# Altium footprint library KILEX LIBRARY PCB.PcbLib: 35 footprints (part 3 of 3)
Each footprint in its own frame and in the unit in brackets; x right, y up, seen from the top. Pads: shape width x height; smd on the part's side, far side on the other; paste and mask are expansions set on the pad; w line width, h text height; cw(c..) or ccw(c..) is an arc to the next point about the centre after c.
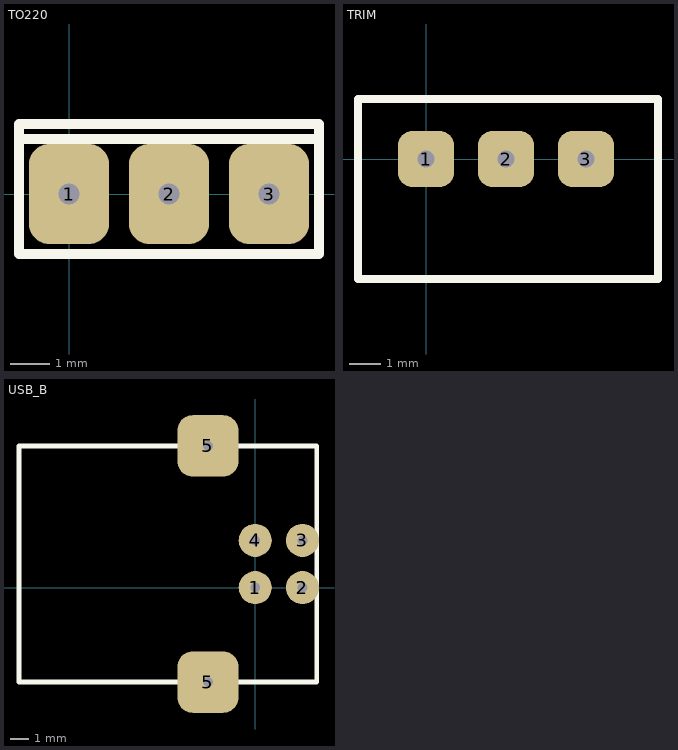
[diagram p2: the footprints below, top view; thin cyan lines are the x and y axes]

## TO220 [mil]
pads (3):
  rrect50% 80x100 hole 21: 1(0,0) 2(100,0) 3(200,0)
Top Overlay:
  lines w10: -50,55 250,55 250,70 ; 250,70 250,-60 -50,-60 -50,70 250,70
3D body: height 746.06, standoff -396.85, extent -94.88,-61.02 294.89,114.47

## TRIM [mil]
pads (3):
  rrect50% 70x70 hole 21: 1(0,0) 2(100,0) 3(200,0)
Top Overlay:
  lines w10: -85,-150 -85,75 290,75 290,-150 -85,-150
3D body: height 465, standoff -235, extent -87.5,-164.99 287.5,75

## USB_B [mil]
pads (6):
  round 70 hole 21: 1(0,0) 2(100,0) 3(100,100) 4(0,100)
  rrect50% 130x130 hole 21: 5(-100,-200) 5(-100,300)
Top Overlay:
  lines w10: -500,-200 130,-200 130,300 -500,300 -500,-200